# Altium schematic symbol library Capacitor_Ceramic0402.SchLib: 1 symbol
Pins are listed as number, name and electrical type; pins without a type are passive.

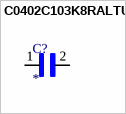
[diagram p0: symbol C0402C103K8RALTU]

## C0402C103K8RALTU
designator C?
Cap Ceramic 0.01uF 10V X7R 10% SMD 0402 Paper T/R; MP: C0402C103K8RALTU; Package: None; Price: None; Value: *; Availability: Unavailable
footprint CAPC1005X55N
pins: 1, 2